# Altium schematic symbol library OSC.SchLib: 2 symbols
Pins are listed as number, name and electrical type; pins without a type are passive.

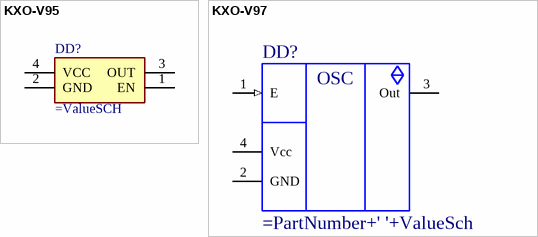
[diagram p0: symbols KXO-V95 to KXO-V97]

## KXO-V95
designator DD?
pins: 1 EN, 2 GND, 3 OUT, 4 VCC

## KXO-V97
designator DD?
pins: 1 E (in), 2 GND (power), 3 Out (hiz), 4 Vcc (power)
text: OSC